# Altium footprint library Dial Switch.PcbLib: 2 footprints
Each footprint in its own frame and in the unit in brackets; x right, y up, seen from the top. Pads: shape width x height; smd on the part's side, far side on the other; paste and mask are expansions set on the pad; w line width, h text height; cw(c..) or ccw(c..) is an arc to the next point about the centre after c.
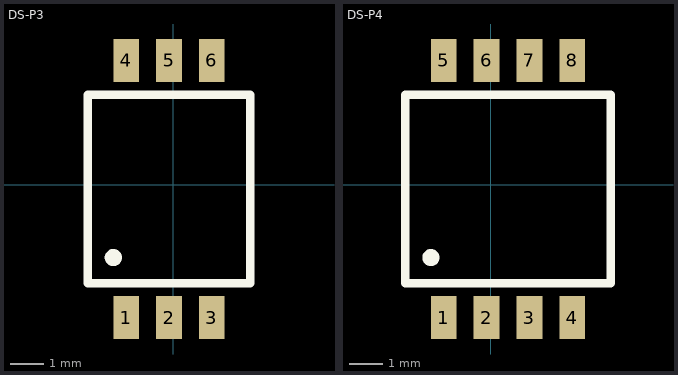
[diagram p0: the footprints below, top view; thin cyan lines are the x and y axes]

## DS-P3 [mil]
pads (6):
  rect 29.92x50 smd: 1(-55,-155) 2(-5,-155) 3(45,-155) 4(-55,145) 5(-5,145) 6(45,145)
Top Overlay:
  circle w10: c-70,-85 r5
  lines w10: -100,-115 -100,105 90,105 90,-115 -100,-115

## DS-P4 [mil]
pads (8):
  rect 29.92x50 smd: 1(-55,-155) 2(-5,-155) 3(45,-155) 4(95,-155) 5(-55,145) 6(-5,145) 7(45,145) 8(95,145)
Top Overlay:
  circle w10: c-70,-85 r5
  lines w10: -100,-115 140,-115 140,105 -100,105 -100,-115